# EAGLE library part SH18101AS (library ruark2)
eBay Gian LED 7 Segment
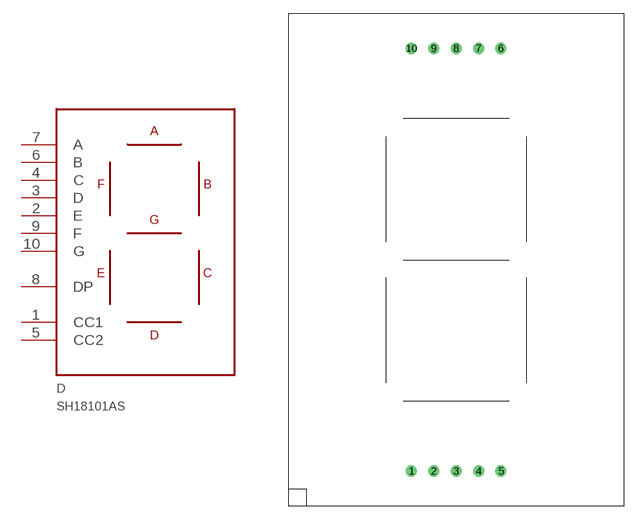
[diagram p119: symbol with the pads of SH18101AS; footprint SH18101AS]

Designator prefix D

## SH18101AS  [SH18101AS]
1  CC1
2  E
3  D
4  C
5  CC2
6  B
7  A
8  DP
9  F
10  G

## Footprint SH18101AS (pad centres in mm)
drill 0.75: 1 -5.08,-24; 2 -2.54,-24; 3 0,-24; 4 2.54,-24; 5 5.08,-24; 6 5.08,24; 7 2.54,24; 8 0,24; 9 -2.54,24; 10 -5.08,24